# Altium schematic symbol library RT0402BRD0732K4L.SchLib: 1 symbol
Pins are listed as number, name and electrical type; pins without a type are passive.

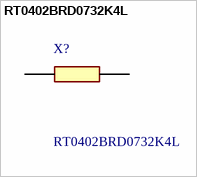
[diagram p0: symbol RT0402BRD0732K4L]

## RT0402BRD0732K4L
designator X?
32.4 kOhms +/-0.1% 0.063W, 1/16W Chip Resistor 0402 (1005 Metric) Thin Film; Manufacturer_Name: YAGEO; Geometry.Height: 0.35mm; Mouser Part Number: *; Mouser Price/Stock: *; Manufacturer_Part_Number: RT0402BRD0732K4L; Datasheet Link: https://www.yageo.com/upload/media/product/productsearch/datasheet/rchip/PYu-RT_1-to-0.01_RoHS_L_15.pdf
footprint RESC1005X35N
pins: 1, 2